# Altium integrated library max1329betl&plus_.IntLib: 1 symbol
Pins are listed as number, name and electrical type; pins without a type are passive.

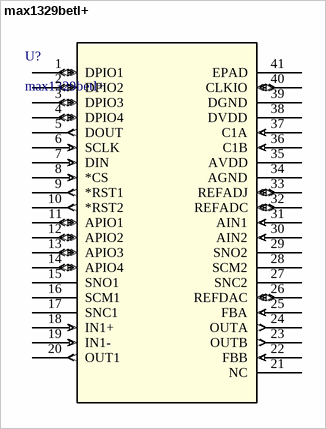
[diagram p0: symbol max1329betl+]

## max1329betl+
designator U?
No Description Available; Mfr_Name: Maxim Integrated Products; Copyright: Copyright (C) 2022 Ultra Librarian. All rights reserved.; Manufacturer_Part_Number: max1329betl+; RefDes: RefDes; Type: DEV
footprint 21-0141_T4066+5_MXM
pins: 1 DPIO1 (io), 2 DPIO2 (io), 3 DPIO3 (io), 4 DPIO4 (io), 5 DOUT (out), 6 SCLK (in), 7 DIN (in), 8 *CS (in), 9 *RST1 (out), 10 *RST2 (out), 11 APIO1 (io), 12 APIO2 (io), 13 APIO3 (io), 14 APIO4 (io), 15 SNO1, 16 SCM1, 17 SNC1, 18 IN1+ (in), 19 IN1- (in), 20 OUT1 (out), 21 NC, 22 FBB (in), 23 OUTB (out), 24 OUTA (out), 25 FBA (in), 26 REFDAC (io), 27 SNC2, 28 SCM2, 29 SNO2, 30 AIN2 (in), 31 AIN1 (in), 32 REFADC (io), 33 REFADJ (io), 34 AGND (power), 35 AVDD (power), 36 C1B (in), 37 C1A (in), 38 DVDD (power), 39 DGND (power), 40 CLKIO (io), 41 EPAD